# Altium footprint library 杂项库.PcbLib: 585 footprints (part 11 of 37)
Each footprint in its own frame and in the unit in brackets; x right, y up, seen from the top. Pads: shape width x height; smd on the part's side, far side on the other; paste and mask are expansions set on the pad; w line width, h text height; cw(c..) or ccw(c..) is an arc to the next point about the centre after c.
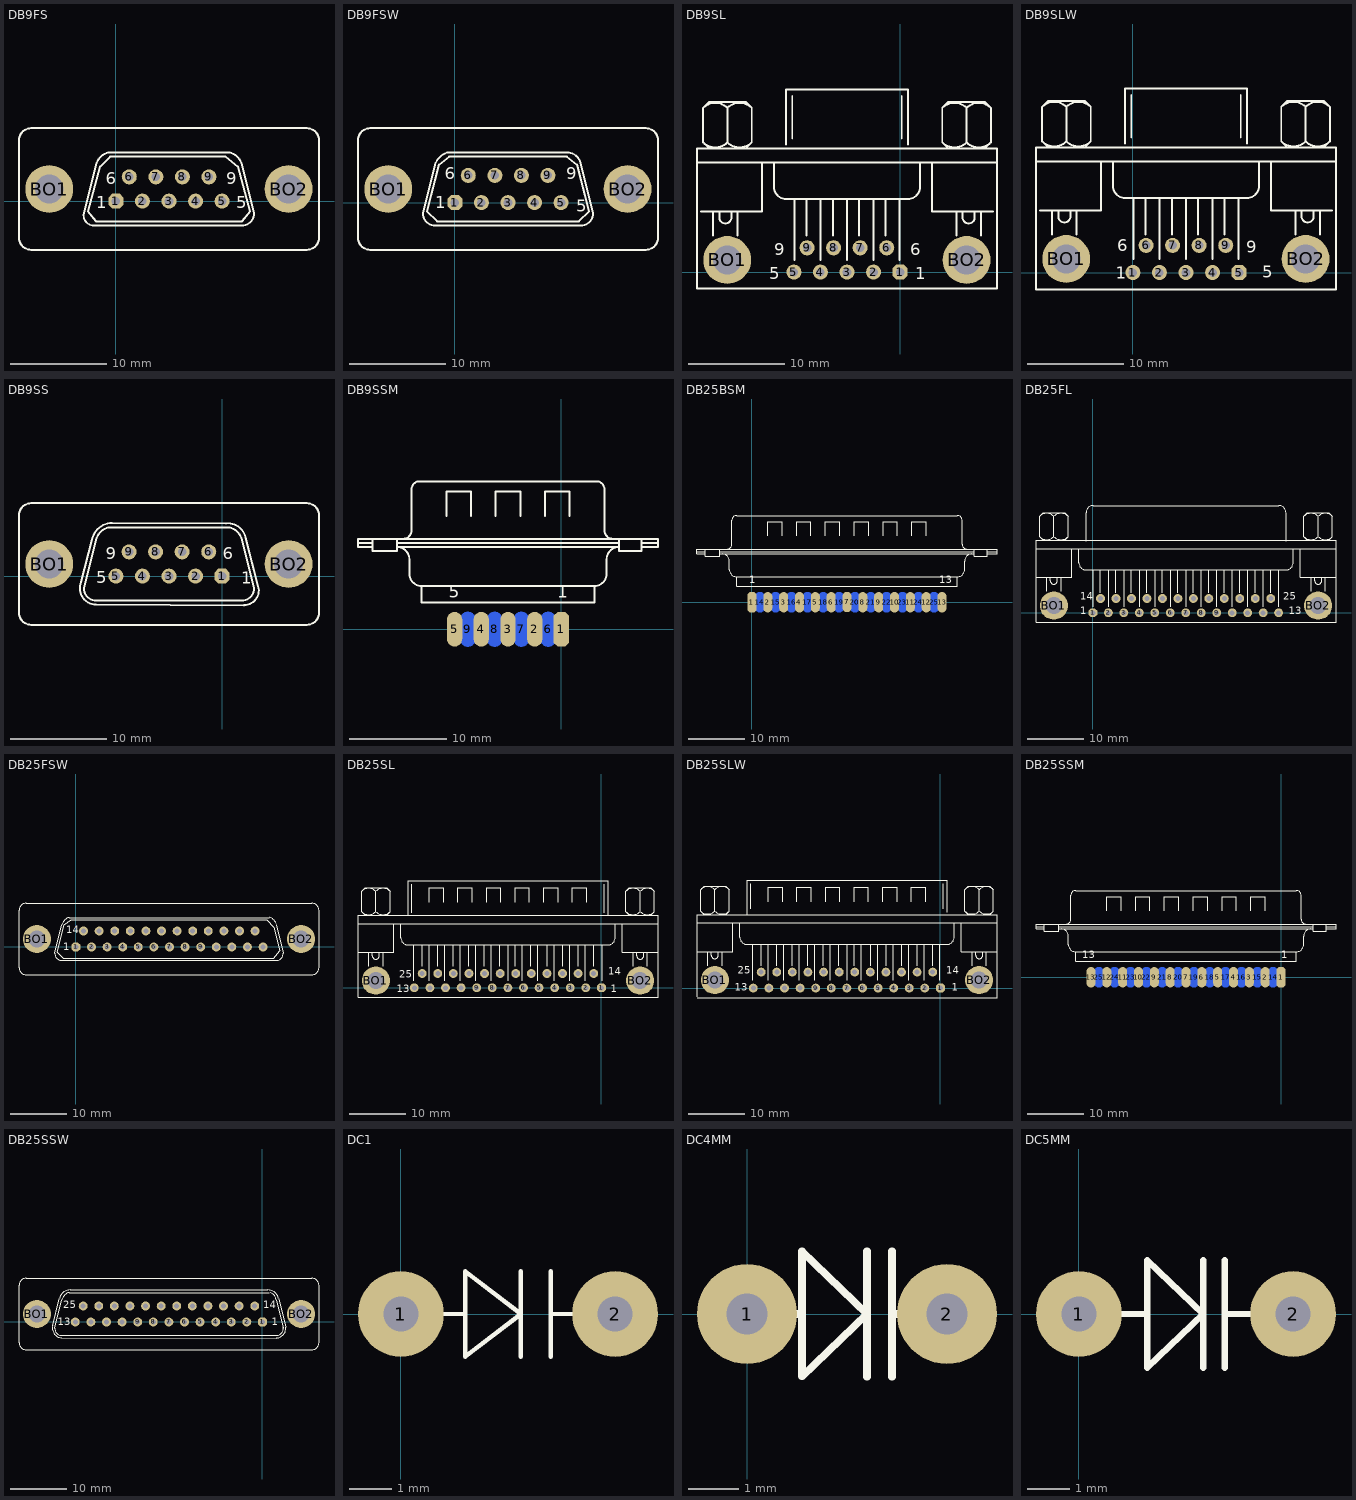
[diagram p10: the footprints below, top view; thin cyan lines are the x and y axes]

## DB9FS [mil]
pads (11):
  oct 62x62 hole 35: 1(0,0)
  round 62 hole 35: 2(109.17,0) 3(218.33,0) 4(327.5,0) 5(436.67,0) 6(55,100) 7(164.17,100) 8(273.33,100) 9(382.5,100)
  round 196.67 hole 118.33: BO1(-274.17,50) BO2(710,50)
Top Overlay:
  lines w8: -131.72,-50.22 ccw(c-90,-58.33) -81.89,-100.05 ; -131.67,-50 -81.67,150 ; -81.67,-100 518.33,-100 ccw(c518.33,-50) 568.33,-50 518.33,150 ; -81.3,149.86 cw(c-15,133.33) -31.53,199.64 ; -31.67,200 468.33,200 ; 468.2,199.64 cw(c451.67,133.33) 517.97,149.86 ; -398.33,-150 ccw(c-348.33,-150) -348.33,-200 785,-200 ccw(c785,-150) 835,-150 835,250 ccw(c785,250) 785,300 -348.33,300 ccw(c-348.33,250) -398.33,250 -398.33,-150 ; -115,-41.67 -81.67,-83.33 518.33,-83.33 551.67,-41.67 501.67,141.67 451.67,183.33 -23.33,183.33 -65,141.67 -115,-41.67
  text "9" at 454.03,70.2 h50
  text "6" at -41.67,70 h50
  text "5" at 494.63,-29.7 h50
  text "1" at -81.67,-30 h50

## DB9FSW [mil]
pads (11):
  oct 62x62 hole 35: 1(0,0)
  round 62 hole 35: 2(109.17,0) 3(218.33,0) 4(327.5,0) 5(436.67,0) 6(55,111.67) 7(164.17,111.67) 8(273.33,111.67) 9(382.5,111.67)
  round 196.67 hole 118.33: BO1(-274.17,55.83) BO2(710,55.83)
Top Overlay:
  lines w8: -398.33,255.83 cw(c-348.33,255.83) -348.33,305.83 785,305.83 cw(c785,255.83) 835,255.83 835,-144.17 cw(c785,-144.17) 785,-194.17 -348.33,-194.17 cw(c-348.33,-144.17) -398.33,-144.17 -398.33,264.17 ; -81.67,155.83 -131.67,-44.17 ccw(c-81.67,-44.17) -81.67,-94.17 518.33,-94.17 ccw(c518.33,-44.17) 568.33,-44.17 518.33,155.83 ; -78.99,163.03 cw(c-6.67,130.83) -31.13,206.12 ; -31.67,205.83 468.33,205.83 ; 468.23,206.09 cw(c460,147.5) 518.59,155.73 ; -115,-35.83 -73.33,-77.5 510,-77.5 551.67,-35.83 501.67,155.83 460,189.17 -23.33,189.17 -65,155.83 -115,-35.83
  text "9" at 458.33,95.83 h50
  text "5" at 499.33,-37.97 h50
  text "1" at -81.67,-24.17 h50
  text "6" at -41.67,95.83 h50

## DB9SL [mil]
pads (11):
  oct 62x62 hole 35: 1(0,0)
  round 62 hole 35: 2(-109.17,0) 3(-218.33,0) 4(-327.5,0) 5(-436.67,0) 6(-55,100) 7(-164.17,100) 8(-273.33,100) 9(-382.5,100)
  round 196.67 hole 118.33: BO1(-710.83,50) BO2(273.33,50)
Top Overlay:
  lines w8: -835,450 398.33,450 ; -818.33,250 -568.33,250 -568.33,450 ; -810.09,533.25 ccw(c-760,583.33) -709.91,533.25 ; -810.09,675.09 cw(c-760,625) -709.91,675.09 ; -785,508.33 -810,533.33 -810,675 -785,700 -635,700 -610,675 -610,533.33 -635,508.33 ; -768.33,150 -768.33,250 ; -743.33,250 -743.33,225 ccw(c-718.33,225) -693.33,225 -693.33,250 ; -710.09,533.25 ccw(c-660,583.33) -609.91,533.25 ; -710.09,675.09 cw(c-660,625) -609.91,675.09 ; -710,533.33 -710,675 ; -668.33,150 -668.33,250 ; -518.33,450 -518.33,350 ccw(c-468.33,350) -468.33,300 31.67,300 ccw(c31.67,350) 81.67,350 81.67,450 ; -468.33,525 -468.33,750 31.67,750 31.67,525 ; -443.33,550 -443.33,725 ; -435,50 -435,300 ; -385,150 -385,300 ; -326.67,50 -326.67,300 ; -276.67,150 -276.67,300 ; -218.33,50 -218.33,300 ; -168.33,150 -168.33,300 ; -110,50 -110,300 ; -60,150 -60,158.33 -60,300 ; -1.67,50 -1.67,300 ; 6.67,550 6.67,725 ; 131.67,450 131.67,250 381.67,250 ; 173.25,533.25 ccw(c223.33,583.33) 273.42,533.25 ; 173.25,675.09 cw(c223.33,625) 273.42,675.09 ; 198.33,508.33 173.33,533.33 173.33,675 198.33,700 348.33,700 373.33,675 373.33,533.33 348.33,508.33 ; 231.67,150 231.67,250 ; 256.67,250 256.67,225 ccw(c281.67,225) 306.67,225 306.67,250 ; 273.25,533.25 ccw(c323.33,583.33) 373.42,533.25 ; 273.25,675.09 cw(c323.33,625) 373.42,675.09 ; 273.33,533.33 273.33,675 ; 331.67,150 331.67,250 ; -835,-66.67 -835,508.33 398.33,508.33 398.33,-66.67 -835,-66.67
  text "9" at -518.33,70 h50
  text "5" at -538.33,-30 h50
  text "1" at 61.67,-30 h50
  text "6" at 41.67,70 h50

## DB9SLW [mil]
pads (11):
  round 62 hole 35: 1(0,0) 2(109.17,0) 3(218.33,0) 4(327.5,0) 6(54.17,111.67) 7(163.33,111.67) 8(272.5,111.67) 9(381.67,111.67)
  oct 62x62 hole 35: 5(436.67,0)
  round 196.67 hole 118.33: BO1(-274.17,55.83) BO2(710,55.83)
Top Overlay:
  lines w8: -398.33,455.83 835,455.83 ; -381.67,255.83 -131.67,255.83 -131.67,455.83 ; -373.42,539.08 ccw(c-323.33,589.17) -273.25,539.08 ; -373.42,680.92 cw(c-323.33,630.83) -273.25,680.92 ; -348.33,514.17 -373.33,539.17 -373.33,680.83 -348.33,705.83 -198.33,705.83 -173.33,680.83 -173.33,539.17 -198.33,514.17 ; -331.67,155.83 -331.67,255.83 ; -306.67,255.83 -306.67,230.83 ccw(c-281.67,230.83) -256.67,230.83 -256.67,255.83 ; -273.42,539.08 ccw(c-223.33,589.17) -173.25,539.08 ; -273.42,680.92 cw(c-223.33,630.83) -173.25,680.92 ; -273.33,539.17 -273.33,680.83 ; -231.67,155.83 -231.67,255.83 ; -81.67,455.83 -81.67,355.83 ccw(c-31.67,355.83) -31.67,305.83 468.33,305.83 ccw(c468.33,355.83) 518.33,355.83 518.33,455.83 ; -31.67,530.83 -31.67,755.83 468.33,755.83 468.33,530.83 ; -6.67,555.83 -6.67,730.83 ; 1.67,55.83 1.67,305.83 ; 51.67,155.83 51.67,305.83 ; 110,55.83 110,305.83 ; 160,155.83 160,305.83 ; 218.33,55.83 218.33,305.83 ; 268.33,155.83 268.33,305.83 ; 326.67,55.83 326.67,305.83 ; 376.67,155.83 376.67,305.83 ; 435,55.83 435,305.83 ; 443.33,555.83 443.33,730.83 ; 568.33,455.83 568.33,255.83 818.33,255.83 ; 609.91,539.08 ccw(c660,589.17) 710.09,539.08 ; 609.91,680.92 cw(c660,630.83) 710.09,680.92 ; 635,514.17 610,539.17 610,680.83 635,705.83 785,705.83 810,680.83 810,539.17 785,514.17 ; 668.33,155.83 668.33,255.83 ; 693.33,255.83 693.33,230.83 ccw(c718.33,230.83) 743.33,230.83 743.33,255.83 ; 709.91,539.08 ccw(c760,589.17) 810.09,539.08 ; 709.91,680.92 cw(c760,630.83) 810.09,680.92 ; 710,539.17 710,680.83 ; 768.33,155.83 768.33,255.83 ; -398.33,-69.17 835,-69.17 835,514.17 -398.33,514.17 -398.33,-69.17
  text "6" at -63.33,87 h50
  text "1" at -71.33,-25 h50
  text "5" at 532.67,-22 h50
  text "9" at 465.67,82 h50

## DB9SS [mil]
pads (11):
  oct 62x62 hole 35: 1(0,0)
  round 62 hole 35: 2(-109.17,0) 3(-218.33,0) 4(-327.5,0) 5(-436.67,0) 6(-55,100) 7(-164.17,100) 8(-273.33,100) 9(-382.5,100)
  round 196.67 hole 118.33: BO1(-710.83,50) BO2(273.33,50)
Top Overlay:
  lines w8: -580,-23.33 -535,150 ; -579.7,-23.95 ccw(c-518.33,-50) -518.33,-116.67 90,-120 ; -535.1,149.55 cw(c-451.67,133.33) -451.67,218.33 15,216.67 ; -518.33,150 -568.33,-50 ccw(c-518.33,-50) -518.33,-100 81.67,-100 ccw(c81.67,-50) 131.67,-50 81.67,150 ; -517.97,149.86 cw(c-451.67,133.33) -468.2,199.64 ; -468.33,200 31.67,200 ; 15.41,217.08 cw(c23.33,141.67) 97.22,158.72 ; 31.53,199.64 cw(c15,133.33) 81.3,149.86 ; 90,-119.17 ccw(c90,-58.33) 148.48,-41.57 ; 96.67,158.33 148.33,-41.67 ; -835,-150 ccw(c-785,-150) -785,-200 348.33,-200 ccw(c348.33,-150) 398.33,-150 398.33,250 ccw(c348.33,250) 348.33,300 -785,300 ccw(c-785,250) -835,250 -835,-150
  text "9" at -478.33,70 h50
  text "5" at -518.33,-30 h50
  text "1" at 78.27,-31.3 h50
  text "6" at 1.67,70 h50

## DB9SSM [mil]
pads (9):
  oct 62.5x141.67 smd: 1(0,0)
  oval 62.5x141.67 smd: 2(-108.33,0) 3(-216.67,0) 4(-325,0) 5(-433.33,0)
  oval 62.5x141.67 smd far side: 6(-54.17,0) 7(-162.5,0) 8(-270.83,0) 9(-379.17,0)
Top Overlay:
  lines w8: -825,350 -766.67,350 ; -766.67,333.33 -825,333.33 -825,366.67 391.67,366.67 391.67,333.33 325,333.33 ; -766.67,366.67 -766.67,316.67 -666.67,316.67 -666.67,366.67 ; -666.67,350 233.33,350 ; -641.67,366.67 ccw(c-641.67,400) -608.33,400 -608.33,566.67 cw(c-575,566.67) -575,600 141.67,600 cw(c141.67,566.67) 175,566.67 175,400 ccw(c208.33,400) 208.33,366.67 ; -466.67,458.33 -466.67,558.33 -366.67,558.33 -366.67,458.33 ; -266.67,458.33 -266.67,558.33 -166.67,558.33 -166.67,458.33 ; -66.67,458.33 -66.67,558.33 33.33,558.33 33.33,458.33 ; 233.33,366.67 233.33,316.67 325,316.67 325,366.67 ; 325,350 391.67,350 ; -566.67,175 cw(c-566.67,225) -616.67,225 -616.67,283.33 ccw(c-666.67,283.33) -666.67,333.33 233.33,333.33 ccw(c233.33,283.33) 183.33,283.33 183.33,225 cw(c133.33,225) 133.33,175 ; -566.67,175 -566.67,108.33 133.33,108.33 133.33,175 ; -566.67,175 133.33,175
  text "5" at -456.67,128.33 h50
  text "1" at -16.67,128.33 h50

## DB25BSM [mil]
pads (25):
  oct 62.5x141.67 smd: 1(0,0)
  oval 62.5x141.67 smd: 2(110,0) 3(220,0) 4(330,0) 5(440,0) 6(550,0) 7(660,1.67) 8(770,0) 9(880,0) 10(990,0) 11(1100,0) 12(1210,0) 13(1320,0)
  oval 62.5x141.67 smd far side: 14(55,0) 15(165,0) 16(275,0) 17(385,0) 18(495,0) 19(605,0) 20(715,0) 21(825,0) 22(935,0) 23(1045,0) 24(1155,0) 25(1265,0)
Top Overlay:
  lines w8: -381.67,351.67 -323.33,351.67 ; -323.33,335 -381.67,335 -381.67,368.33 1701.67,368.33 1701.67,335 1635,335 ; -323.33,368.33 -323.33,318.33 -223.33,318.33 -223.33,368.33 ; -223.33,335 1543.33,335 ; -223.33,351.67 1543.33,351.67 ; -206.67,335 cw(c-206.67,285) -156.67,285 -156.67,226.67 ccw(c-106.67,226.67) -106.67,176.67 ; -173.33,368.33 ccw(c-173.33,401.67) -140,401.67 -140,568.33 cw(c-106.67,568.33) -106.67,601.67 1426.67,601.67 cw(c1426.67,568.33) 1460,568.33 1460,401.67 ccw(c1493.33,401.67) 1493.33,368.33 ; 110,460 110,560 210,560 210,460 ; 310,460 310,560 410,560 410,460 ; 510,460 510,560 610,560 610,460 ; 710,460 710,560 810,560 810,460 ; 910,460 910,560 1010,560 1010,460 ; 1110,460 1110,560 1210,560 1210,460 ; 1526.67,335 ccw(c1526.67,285) 1476.67,285 1476.67,226.67 cw(c1426.67,226.67) 1426.67,176.67 ; 1543.33,368.33 1543.33,318.33 1635,318.33 1635,368.33 ; 1635,351.67 1701.67,351.67 ; -106.67,176.67 1426.67,176.67 ; -106.67,176.67 -106.67,110 1426.67,110 1426.67,176.67
  text "13" at 1300,130 h50
  text "1" at -20,130 h50

## DB25FL [mil]
pads (27):
  oct 62x62 hole 35: 1(0,0)
  round 62 hole 35: 2(108.33,0) 3(216.67,0) 4(325,0) 5(433.33,0) 6(541.67,0) 7(650,0) 8(758.33,0) 9(866.67,0) 10(975,0) 11(1083.33,0) 12(1191.67,0) 13(1300,0) 14(53.33,100) 15(161.67,100) 16(270,100) 17(378.33,100) 18(486.67,100) 19(595,100) 20(703.33,100) 21(811.67,100) 22(920,100) 23(1028.33,100) 24(1136.67,100) 25(1245,100)
  round 196.67 hole 118.33: BO1(-273.33,50) BO2(1576.67,50)
Top Overlay:
  lines w8: -398.33,250 -148.33,250 -148.33,450 ; -398.33,450 1701.67,450 ; -373.42,533.25 ccw(c-323.33,583.33) -273.25,533.25 ; -373.42,675.09 cw(c-323.33,625) -273.25,675.09 ; -348.33,508.33 -373.33,533.33 -373.33,675 -348.33,700 -198.33,700 -173.33,675 -173.33,533.33 -198.33,508.33 ; -323.33,150 -323.33,250 ; -298.33,250 -298.33,225 ccw(c-273.33,225) -248.33,225 -248.33,250 ; -273.42,533.25 ccw(c-223.33,583.33) -173.25,533.25 ; -273.42,675.09 cw(c-223.33,625) -173.25,675.09 ; -273.33,533.33 -273.33,675 ; -223.33,150 -223.33,250 ; -98.33,450 -98.33,350 ccw(c-48.33,350) -48.33,300 1351.67,300 ccw(c1351.67,350) 1401.67,350 1401.67,450 ; -48.33,500 -48.33,700 cw(c1.67,700) 1.67,750 1301.67,750 cw(c1301.67,700) 1351.67,700 1351.67,500 ; 1.67,41.67 1.67,300 ; 51.67,141.67 51.67,300 ; 110,41.67 110,300 ; 160,141.67 160,300 ; 218.33,41.67 218.33,300 ; 268.33,141.67 268.33,300 ; 326.67,41.67 326.67,300 ; 376.67,141.67 376.67,300 ; 435,41.67 435,300 ; 485,141.67 485,300 ; 543.33,41.67 543.33,300 ; 593.33,141.67 593.33,300 ; 651.67,41.67 651.67,300 ; 701.67,141.67 701.67,300 ; 760,41.67 760,300 ; 810,141.67 810,300 ; 868.33,41.67 868.33,300 ; 918.33,141.67 918.33,300 ; 976.67,41.67 976.67,300 ; 1026.67,141.67 1026.67,300 ; 1085,41.67 1085,300 ; 1135,141.67 1135,300 ; 1193.33,41.67 1193.33,300 ; 1243.33,141.67 1243.33,300 ; 1301.67,41.67 1301.67,300 ; 1451.67,450 1451.67,250 1701.67,250 ; 1476.58,533.25 ccw(c1526.67,583.33) 1576.75,533.25 ; 1476.58,675.09 cw(c1526.67,625) 1576.75,675.09 ; 1501.67,508.33 1476.67,533.33 1476.67,675 1501.67,700 1651.67,700 1676.67,675 1676.67,533.33 1651.67,508.33 ; 1526.67,150 1526.67,250 ; 1551.67,250 1551.67,225 ccw(c1576.67,225) 1601.67,225 1601.67,250 ; 1576.58,533.25 ccw(c1626.67,583.33) 1676.75,533.25 ; 1576.58,675.09 cw(c1626.67,625) 1676.75,675.09 ; 1576.67,533.33 1576.67,675 ; 1626.67,150 1626.67,250 ; -398.33,-66.67 -398.33,508.33 1701.67,508.33 1701.67,-66.67 -398.33,-66.67
  text "13" at 1371.67,-10 h50
  text "25" at 1331.67,90 h50
  text "14" at -88.33,90 h50
  text "1" at -88.33,-10 h50

## DB25FSW [mil]
pads (27):
  oct 62x62 hole 35: 1(0,0)
  round 62 hole 35: 2(109.17,0) 3(218.33,0) 4(327.5,0) 5(436.67,0) 6(545.83,0) 7(655,0) 8(764.17,0) 9(873.33,0) 10(982.5,0) 11(1091.67,0) 12(1200.83,0) 13(1310,0) 14(53.33,111.67) 15(162.5,111.67) 16(271.67,111.67) 17(380.83,111.67) 18(490,111.67) 19(599.17,111.67) 20(708.33,111.67) 21(817.5,111.67) 22(926.67,111.67) 23(1035.83,111.67) 24(1145,111.67) 25(1254.17,111.67)
  round 196.67 hole 118.33: BO1(-273.33,55.83) BO2(1576.67,55.83)
Top Overlay:
  lines w8: -98.33,-94.17 1401.67,-94.17 ccw(c1401.67,-44.17) 1451.67,-44.17 1401.67,155.83 ; -98.33,155.83 -148.33,-44.17 ccw(c-98.33,-44.17) -90.51,-93.55 ; -97.97,155.7 cw(c-31.67,139.17) -48.2,205.47 ; -48.33,205.83 1351.67,205.83 ; 1354.52,207.26 cw(c1335,139.17) 1401.13,164.55 ; -398.33,-144.17 ccw(c-348.33,-144.17) -348.33,-194.17 1651.67,-194.17 ccw(c1651.67,-144.17) 1701.67,-144.17 1701.67,255.83 ccw(c1651.67,255.83) 1651.67,305.83 -348.33,305.83 ccw(c-348.33,255.83) -398.33,255.83 -398.33,-144.17 ; -131.67,-35.83 -90,-77.5 1385,-77.5 1426.67,-27.5 1385,139.17 1335,189.17 -31.67,189.17 -81.67,155.83 -131.67,-35.83
  text "1" at -88.33,-24.17 h50
  text "14" at -68.33,95.83 h50

## DB25SL [mil]
pads (27):
  oct 62x62 hole 35: 1(0,0)
  round 62 hole 35: 2(-109.17,0) 3(-218.33,0) 4(-327.5,0) 5(-436.67,0) 6(-545.83,0) 7(-655,0) 8(-764.17,0) 9(-873.33,0) 10(-982.5,0) 11(-1091.67,0) 12(-1200.83,0) 13(-1310,0) 14(-54.17,100) 15(-163.33,100) 16(-272.5,100) 17(-381.67,100) 18(-490.83,100) 19(-600,100) 20(-709.17,100) 21(-818.33,100) 22(-927.5,100) 23(-1036.67,100) 24(-1145.83,100) 25(-1255,100)
  round 196.67 hole 118.33: BO1(-1579.17,50) BO2(270.83,50)
Top Overlay:
  lines w8: -1704.17,250 -1454.17,250 -1454.17,450 ; -1704.17,450 395.83,450 ; -1679.25,533.25 ccw(c-1629.17,583.33) -1579.08,533.25 ; -1679.25,675.09 cw(c-1629.17,625) -1579.08,675.09 ; -1654.17,508.33 -1679.17,533.33 -1679.17,675 -1654.17,700 -1504.17,700 -1479.17,675 -1479.17,533.33 -1504.17,508.33 ; -1629.17,150 -1629.17,250 ; -1604.17,250 -1604.17,225 ccw(c-1579.17,225) -1554.17,225 -1554.17,250 ; -1579.25,533.25 ccw(c-1529.17,583.33) -1479.08,533.25 ; -1579.25,675.09 cw(c-1529.17,625) -1479.08,675.09 ; -1579.17,533.33 -1579.17,675 ; -1529.17,150 -1529.17,250 ; -1404.17,450 -1404.17,350 ccw(c-1354.17,350) -1354.17,300 45.83,300 ccw(c45.83,350) 95.83,350 95.83,450 ; -1354.17,508.33 -1354.17,750 45.83,750 45.83,508.33 ; -1329.17,525 -1329.17,725 ; -1312.5,50 -1312.5,300 ; -1254.17,150 -1254.17,300 ; -1204.17,50 -1204.17,300 ; -1204.17,600 -1204.17,700 -1104.17,700 -1104.17,600 ; -1145.83,150 -1145.83,300 ; -1095.83,50 -1095.83,300 ; -1037.5,150 -1037.5,300 ; -1004.17,600 -1004.17,700 -904.17,700 -904.17,600 ; -987.5,50 -987.5,300 ; -929.17,150 -929.17,300 ; -879.17,50 -879.17,300 ; -820.83,150 -820.83,300 ; -804.17,600 -804.17,700 -704.17,700 -704.17,600 ; -770.83,50 -770.83,300 ; -712.5,150 -712.5,300 ; -654.17,50 -654.17,300 ; -604.17,150 -604.17,300 ; -604.17,600 -604.17,700 -504.17,700 -504.17,600 ; -554.17,50 -554.17,300 ; -495.83,150 -495.83,300 ; -445.83,50 -445.83,300 ; -404.17,600 -404.17,700 -304.17,700 -304.17,600 ; -379.17,150 -379.17,300 ; -329.17,50 -329.17,300 ; -270.83,150 -270.83,300 ; -220.83,50 -220.83,300 ; -204.17,600 -204.17,700 -104.17,700 -104.17,600 ; -162.5,150 -162.5,300 ; -112.5,50 -112.5,300 ; -54.17,150 -54.17,300 ; 4.17,50 4.17,300 ; 20.83,525 20.83,725 ; 145.83,450 145.83,250 395.83,250 ; 170.75,533.25 ccw(c220.83,583.33) 270.92,533.25 ; 170.75,675.09 cw(c220.83,625) 270.92,675.09 ; 195.83,508.33 170.83,533.33 170.83,675 195.83,700 345.83,700 370.83,675 370.83,533.33 345.83,508.33 ; 220.83,150 220.83,250 ; 245.83,250 245.83,225 ccw(c270.83,225) 295.83,225 295.83,250 ; 270.75,533.25 ccw(c320.83,583.33) 370.92,533.25 ; 270.75,675.09 cw(c320.83,625) 370.92,675.09 ; 270.83,533.33 270.83,675 ; 320.83,150 320.83,250 ; -1704.17,-66.67 395.83,-66.67 395.83,508.33 -1704.17,508.33 -1704.17,-66.67
  text "25" at -1414.17,70 h50
  text "13" at -1434.17,-30 h50
  text "1" at 65.83,-30 h50
  text "14" at 45.83,90 h50

## DB25SLW [mil]
pads (27):
  oct 62x62 hole 35: 1(0,0)
  round 62 hole 35: 2(-109.17,0) 3(-218.33,0) 4(-327.5,0) 5(-436.67,0) 6(-545.83,0) 7(-655,0) 8(-764.17,0) 9(-873.33,0) 10(-982.5,0) 11(-1091.67,0) 12(-1200.83,0) 13(-1310,0) 14(-54.17,111.67) 15(-163.33,111.67) 16(-272.5,111.67) 17(-381.67,111.67) 18(-490.83,111.67) 19(-600,111.67) 20(-709.17,111.67) 21(-818.33,111.67) 22(-927.5,111.67) 23(-1036.67,111.67) 24(-1145.83,111.67) 25(-1255,111.67)
  round 196.67 hole 118.33: BO1(-1579.17,55.83) BO2(270.83,55.83)
Top Overlay:
  lines w8: -1704.17,-69.17 395.83,-69.17 395.83,514.17 -1704.17,514.17 -1704.17,-60.83 ; -1704.17,255.83 -1454.17,255.83 -1454.17,455.83 ; -1704.17,455.83 395.83,455.83 ; -1679.25,539.08 ccw(c-1629.17,589.17) -1579.08,539.08 ; -1679.25,689.25 cw(c-1629.17,639.17) -1579.08,689.25 ; -1654.17,514.17 -1679.17,539.17 -1679.17,689.17 -1654.17,714.17 -1504.17,714.17 -1479.17,689.17 -1479.17,539.17 -1504.17,514.17 ; -1629.17,155.83 -1629.17,255.83 ; -1604.17,255.83 -1604.17,230.83 ccw(c-1579.17,230.83) -1554.17,230.83 -1554.17,255.83 ; -1579.25,539.08 ccw(c-1529.17,589.17) -1479.08,539.08 ; -1579.25,689.25 cw(c-1529.17,639.17) -1479.08,689.25 ; -1579.17,539.17 -1579.17,689.17 ; -1529.17,155.83 -1529.17,255.83 ; -1404.17,455.83 -1404.17,355.83 ccw(c-1354.17,355.83) -1354.17,305.83 45.83,305.83 ccw(c45.83,355.83) 95.83,355.83 95.83,455.83 ; -1354.17,514.17 -1354.17,755.83 45.83,755.83 45.83,530.83 ; -1329.17,555.83 -1329.17,730.83 ; -1312.5,55.83 -1312.5,305.83 ; -1254.17,155.83 -1254.17,305.83 ; -1204.17,55.83 -1204.17,305.83 ; -1204.17,605.83 -1204.17,705.83 -1104.17,705.83 -1104.17,605.83 ; -1145.83,155.83 -1145.83,305.83 ; -1095.83,55.83 -1095.83,305.83 ; -1037.5,155.83 -1037.5,305.83 ; -1004.17,605.83 -1004.17,705.83 -904.17,705.83 -904.17,605.83 ; -987.5,55.83 -987.5,305.83 ; -929.17,155.83 -929.17,305.83 ; -879.17,55.83 -879.17,305.83 ; -820.83,155.83 -820.83,305.83 ; -804.17,605.83 -804.17,705.83 -704.17,705.83 -704.17,605.83 ; -770.83,55.83 -770.83,305.83 ; -712.5,155.83 -712.5,305.83 ; -654.17,55.83 -654.17,305.83 ; -604.17,155.83 -604.17,305.83 ; -604.17,605.83 -604.17,705.83 -504.17,705.83 -504.17,605.83 ; -554.17,55.83 -554.17,305.83 ; -487.5,155.83 -487.5,305.83 ; -437.5,55.83 -437.5,305.83 ; -404.17,605.83 -404.17,705.83 -304.17,705.83 -304.17,605.83 ; -379.17,155.83 -379.17,305.83 ; -329.17,55.83 -329.17,305.83 ; -270.83,155.83 -270.83,305.83 ; -220.83,55.83 -220.83,305.83 ; -204.17,605.83 -204.17,705.83 -104.17,705.83 -104.17,605.83 ; -162.5,155.83 -162.5,305.83 ; -112.5,55.83 -112.5,305.83 ; -54.17,155.83 -54.17,305.83 ; -4.17,55.83 -4.17,305.83 ; 20.83,555.83 20.83,730.83 ; 145.83,455.83 145.83,255.83 395.83,255.83 ; 170.75,539.08 ccw(c220.83,589.17) 270.92,539.08 ; 170.75,689.25 cw(c220.83,639.17) 270.92,689.25 ; 195.83,514.17 170.83,539.17 170.83,689.17 195.83,714.17 345.83,714.17 370.83,689.17 370.83,539.17 345.83,514.17 ; 220.83,155.83 220.83,255.83 ; 245.83,255.83 245.83,230.83 ccw(c270.83,230.83) 295.83,230.83 295.83,255.83 ; 270.75,539.08 ccw(c320.83,589.17) 370.92,539.08 ; 270.75,689.25 cw(c320.83,639.17) 370.92,689.25 ; 270.83,539.17 270.83,689.17 ; 320.83,155.83 320.83,255.83
  text "13" at -1440,-20 h50
  text "25" at -1420,100 h50
  text "14" at 40,100 h50
  text "1" at 80,-20 h50

## DB25SSM [mil]
pads (25):
  oct 62.5x141.67 smd: 1(0,0)
  oval 62.5x141.67 smd: 2(-110,0) 3(-220,0) 4(-330,0) 5(-440,0) 6(-550,0) 7(-660,0) 8(-770,0) 9(-880,0) 10(-990,0) 11(-1100,0) 12(-1210,0) 13(-1320,0)
  oval 62.5x141.67 smd far side: 14(-55,0) 15(-165,0) 16(-275,0) 17(-385,0) 18(-495,0) 19(-605,0) 20(-715,0) 21(-825,0) 22(-935,0) 23(-1045,0) 24(-1155,0) 25(-1265,0)
Top Overlay:
  lines w8: -1701.67,351.67 -1643.33,351.67 ; -1643.33,335 -1701.67,335 -1701.67,368.33 381.67,368.33 381.67,335 315,335 ; -1643.33,368.33 -1643.33,318.33 -1543.33,318.33 -1543.33,368.33 ; -1543.33,335 223.33,335 ; -1543.33,351.67 223.33,351.67 ; -1526.67,335 cw(c-1526.67,285) -1476.67,285 -1476.67,226.67 ccw(c-1426.67,226.67) -1426.67,176.67 ; -1493.33,368.33 ccw(c-1493.33,401.67) -1460,401.67 -1460,568.33 cw(c-1426.67,568.33) -1426.67,601.67 106.67,601.67 cw(c106.67,568.33) 140,568.33 140,401.67 ccw(c173.33,401.67) 173.33,368.33 ; -1210,460 -1210,560 -1110,560 -1110,460 ; -1010,460 -1010,560 -910,560 -910,460 ; -810,460 -810,560 -710,560 -710,460 ; -610,460 -610,560 -510,560 -510,460 ; -410,460 -410,560 -310,560 -310,460 ; -210,460 -210,560 -110,560 -110,460 ; 206.67,335 ccw(c206.67,285) 156.67,285 156.67,226.67 cw(c106.67,226.67) 106.67,176.67 ; 223.33,368.33 223.33,318.33 315,318.33 315,368.33 ; 315,351.67 381.67,351.67 ; -1426.67,176.67 106.67,176.67 ; -1426.67,176.67 -1426.67,110 106.67,110 106.67,176.67
  text "1" at 0,130 h50
  text "13" at -1380,130 h50

## DB25SSW [mil]
pads (27):
  oct 62x62 hole 35: 1(0,0)
  round 62 hole 35: 2(-109.17,0) 3(-218.33,0) 4(-327.5,0) 5(-436.67,0) 6(-545.83,0) 7(-655,0) 8(-764.17,0) 9(-873.33,0) 10(-982.5,0) 11(-1091.67,0) 12(-1200.83,0) 13(-1310,0) 14(-54.17,111.67) 15(-163.33,111.67) 16(-272.5,111.67) 17(-381.67,111.67) 18(-490.83,111.67) 19(-600,111.67) 20(-709.17,111.67) 21(-818.33,111.67) 22(-927.5,111.67) 23(-1036.67,111.67) 24(-1145.83,111.67) 25(-1255,111.67)
  round 196.67 hole 118.33: BO1(-1579.17,55.83) BO2(270.83,55.83)
Top Overlay:
  lines w8: -1469.17,-25.83 -1420.83,164.17 ; -1468.25,-25.79 ccw(c-1404.17,-44.17) -1404.17,-110.83 95.83,-112.5 ; -1420.53,164.75 cw(c-1345.83,147.5) -1345.83,224.16 37.5,224.17 cw(c37.5,147.5) 112.2,164.75 ; -1404.17,155.83 -1454.17,-44.17 ccw(c-1404.17,-44.17) -1404.17,-94.17 95.83,-94.17 ccw(c95.83,-44.17) 145.22,-36.35 ; -1403.8,155.7 cw(c-1337.5,139.17) -1354.03,205.47 ; -1354.17,205.83 45.83,205.83 ; 53.81,204.37 cw(c37.5,147.5) 96.09,155.73 ; 95.83,-111.67 ccw(c95.83,-44.17) 162.83,-35.94 ; 95.83,155.83 145.83,-44.17 ; 112.5,164.17 162.5,-35.83 ; -1704.17,-144.17 ccw(c-1654.17,-144.17) -1654.17,-194.17 345.83,-194.17 ccw(c345.83,-144.17) 395.83,-144.17 395.83,255.83 ccw(c345.83,255.83) 345.83,305.83 -1654.17,305.83 ccw(c-1654.17,255.83) -1704.17,255.83 -1704.17,-144.17
  text "13" at -1434.17,-24.17 h50
  text "1" at 65.83,-24.17 h50
  text "14" at 5.83,95.83 h50
  text "25" at -1394.17,95.83 h50

## DC1 [mm]
pads (2):
  round 2 hole 0.82: 1(0,0) 2(5,0)
Top Overlay:
  lines w0.1: 0,0 1.5,0 ; 2.8,-1 2.8,1 ; 3.5,-1 3.5,1 ; 3.5,0 5,0 ; 1.5,-1 1.5,1 2.8,0 1.5,-1

## DC4MM [mm]
pads (2):
  round 2 hole 0.82: 1(0,0) 2(4,0)
Top Overlay:
  lines w0.15: 0,0 1.1,0 ; 2.4,-1.25 2.4,1.25 ; 2.9,-1.25 2.9,1.25 ; 2.9,0 4,0 ; 1.1,-1.25 2.4,0 1.1,1.25 1.1,-1.25

## DC5MM [mm]
pads (2):
  round 2 hole 0.82: 1(0,0) 2(5,0)
Top Overlay:
  lines w0.15: 0,0 1.6,0 ; 2.9,-1.25 2.9,1.25 ; 3.4,-1.25 3.4,1.25 ; 3.4,0 5,0 ; 1.6,-1.25 2.9,0 1.6,1.25 1.6,-1.25